# Altium footprint library Discretes.PCBLIB: 77 footprints (part 5 of 5)
Each footprint in its own frame and in the unit in brackets; x right, y up, seen from the top. Pads: shape width x height; smd on the part's side, far side on the other; paste and mask are expansions set on the pad; w line width, h text height; cw(c..) or ccw(c..) is an arc to the next point about the centre after c.
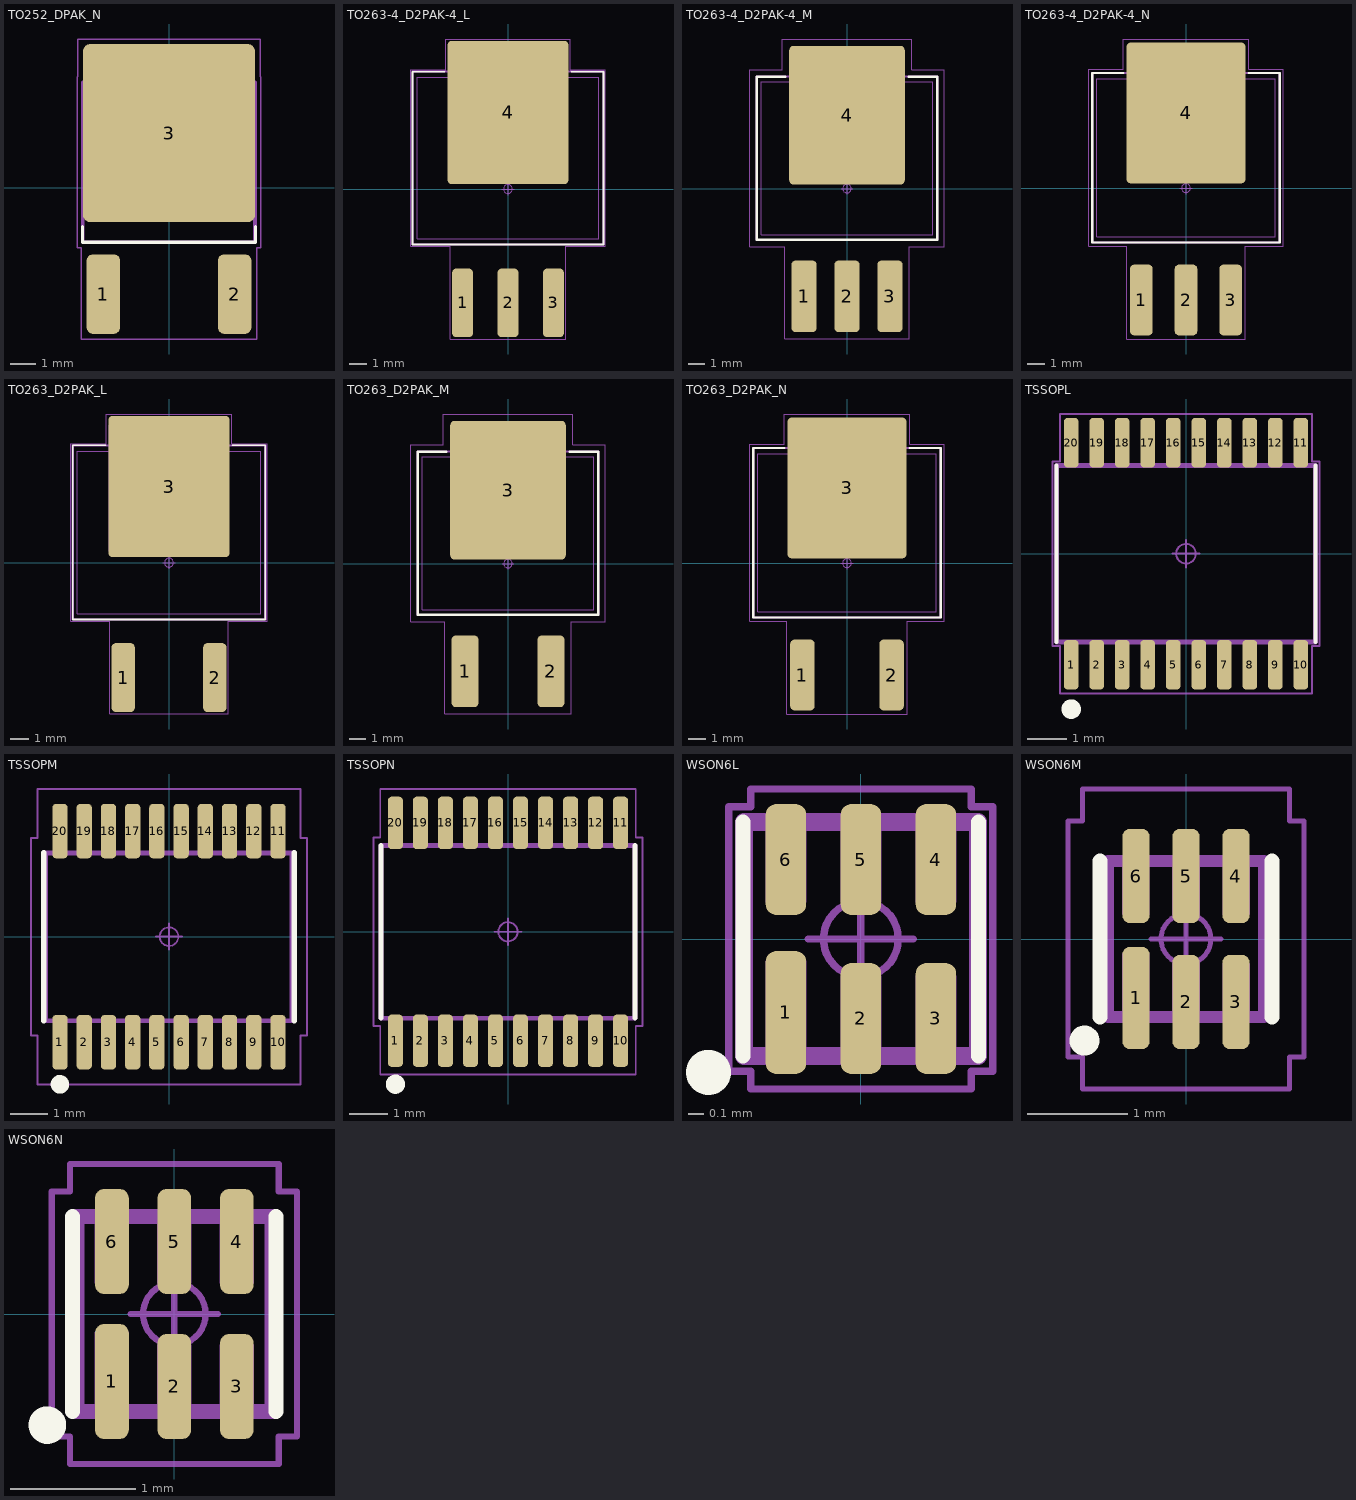
[diagram p4: the footprints below, top view; thin cyan lines are the x and y axes]

## TO252_DPAK_N [mm] "DPAK, 5.08 mm pitch; 2 pin, 6.10 mm L X 6.575 mm W X 2.38 mm H body"
height 2.38
pads (3):
  rrect38% 1.3x3.08 smd: 1(-2.54,-4.12) 2(2.54,-4.12)
  rrect8% 6.67x6.89 smd paste-6.89: 3(0,2.11)
Top Overlay:
  lines w0.12: -3.35,-1.515 -3.35,-2.115 3.35,-2.115 3.35,-1.515
Top Paste:
  region: -1.44,3.585 -3,3.585 -3,5.215 -1.44,5.215
  region: -1.44,1.295 -3,1.295 -3,2.925 -1.44,2.925
  region: -1.44,-0.995 -3,-0.995 -3,0.635 -1.44,0.635
  region: 0.78,3.585 -0.78,3.585 -0.78,5.215 0.78,5.215
  region: 0.78,1.295 -0.78,1.295 -0.78,2.925 0.78,2.925
  region: 0.78,-0.995 -0.78,-0.995 -0.78,0.635 0.78,0.635
  region: 3,3.585 1.44,3.585 1.44,5.215 3,5.215
  region: 3,1.295 1.44,1.295 1.44,2.925 3,2.925
  region: 3,-0.995 1.44,-0.995 1.44,0.635 3,0.635
Top Body, 3D Models:
  lines w0.025: -3.287,-2.065 3.287,-2.065 3.287,4.035 -3.287,4.035 -3.287,-2.065
Top Courtyard:
  circle w0.05: c0,0 r0.25
  lines w0.05: -0.35,0 0.35,0 ; 0,-0.35 0,0.35 ; -3.55,-2.32 -3.39,-2.32 -3.39,-5.86 3.39,-5.86 3.39,-2.32 3.55,-2.32 3.55,4.29 3.535,4.29 3.535,5.755 -3.535,5.755 -3.535,4.29 -3.55,4.29 -3.55,-2.32
Top DesignatorDoc:
  text ".Designator" at 0,0 h1.2
Top Pad Outlines:
  lines w0.025: -3.25,-1.048 -3.25,4.952 3.25,4.952 3.25,-1.048 -3.25,-1.048 ; -2.92,-4.952 -2.92,-3.363 -2.16,-3.363 -2.16,-4.952 -2.92,-4.952 ; 2.16,-4.952 2.16,-3.363 2.92,-3.363 2.92,-4.952 2.16,-4.952
Top Assembly Outline:
  lines w0.12: -3.35,-2.115 -3.35,4.085 3.35,4.085 3.35,-2.115 -3.35,-2.115
3D body "DPAK_TO252_N.STEP": height 2.38, standoff 0, extent -3.287,-4.952 3.287,4.952

## TO263-4_D2PAK-4_L [mm] "DPAK, 2.54 mm pitch; 3 pin, 9.015 mm L X 10.16 mm W X 4.65 mm H body"
height 4.65
pads (4):
  rrect42% 1.19x3.84 smd: 1(-2.54,-6.37) 2(0,-6.37) 3(2.54,-6.37)
  rrect7% 6.77x8.02 smd paste-8.02: 4(0,4.28)
Top Overlay:
  lines w0.1: -3.535,6.562 -5.34,6.562 -5.34,-3.097 5.34,-3.097 5.34,6.562 3.535,6.562
Top Paste:
  region: 3.03,0.53 1.49,0.53 1.49,2 3.03,2
  region: 3.03,2.54 1.49,2.54 1.49,4.01 3.03,4.01
  region: 3.03,4.55 1.49,4.55 1.49,6.02 3.03,6.02
  region: 3.03,6.56 1.49,6.56 1.49,8.03 3.03,8.03
  region: 0.77,0.53 -0.77,0.53 -0.77,2 0.77,2
  region: 0.77,2.54 -0.77,2.54 -0.77,4.01 0.77,4.01
  region: 0.77,4.55 -0.77,4.55 -0.77,6.02 0.77,6.02
  region: 0.77,6.56 -0.77,6.56 -0.77,8.03 0.77,8.03
  region: -1.49,0.53 -3.03,0.53 -3.03,2 -1.49,2
  region: -1.49,2.54 -3.03,2.54 -3.03,4.01 -1.49,4.01
  region: -1.49,4.55 -3.03,4.55 -3.03,6.02 -1.49,6.02
  region: -1.49,6.56 -3.03,6.56 -3.03,8.03 -1.49,8.03
Top Body, 3D Models:
  lines w0.025: -5.08,-2.775 -5.08,6.24 5.08,6.24 5.08,-2.775 -5.08,-2.775
Top Courtyard:
  circle w0.05: c0,0 r0.25
  lines w0.05: -0.35,0 0.35,0 ; 0,-0.35 0,0.35 ; -5.44,-3.2 -5.44,6.66 -3.485,6.66 -3.485,8.39 3.485,8.39 3.485,6.66 5.44,6.66 5.44,-3.2 3.235,-3.2 3.235,-8.39 -3.235,-8.39 -3.235,-3.2 -5.44,-3.2
Top DesignatorDoc:
  text ".Designator" at 0,0 h1
Top Pad Outlines:
  lines w0.025: -3.3,0.62 3.3,0.62 3.3,7.62 -3.3,7.62 -3.3,0.62 ; -2.96,-7.62 -2.12,-7.62 -2.12,-5.335 -2.96,-5.335 -2.96,-7.62 ; -0.42,-7.62 0.42,-7.62 0.42,-5.335 -0.42,-5.335 -0.42,-7.62 ; 2.12,-7.62 2.96,-7.62 2.96,-5.335 2.12,-5.335 2.12,-7.62
Top Assembly Outline:
  lines w0.12: -5.34,-3.097 5.34,-3.097 5.34,6.562 -5.34,6.562 -5.34,-3.097
3D body "D2PAK-4_TO263-4_L.STEP": height 4.65, standoff 0, extent -5.08,-7.62 5.08,7.62

## TO263-4_D2PAK-4_M [mm] "DPAK, 2.54 mm pitch; 3 pin, 9.015 mm L X 10.16 mm W X 4.65 mm H body"
height 4.65
pads (4):
  rrect34% 1.49x4.24 smd: 1(-2.54,-6.37) 2(0,-6.37) 3(2.54,-6.37)
  rrect7% 6.83x8.2 smd paste-8.2: 4(0,4.34)
Top Overlay:
  lines w0.15: -3.64,6.622 -5.34,6.622 -5.34,-3.037 5.34,-3.037 5.34,6.622 3.64,6.622
Top Paste:
  region: -1.505,6.675 -3.055,6.675 -3.055,8.185 -1.505,8.185
  region: -1.505,4.615 -3.055,4.615 -3.055,6.125 -1.505,6.125
  region: -1.505,2.555 -3.055,2.555 -3.055,4.065 -1.505,4.065
  region: -1.505,0.495 -3.055,0.495 -3.055,2.005 -1.505,2.005
  region: 0.775,6.675 -0.775,6.675 -0.775,8.185 0.775,8.185
  region: 0.775,4.615 -0.775,4.615 -0.775,6.125 0.775,6.125
  region: 0.775,2.555 -0.775,2.555 -0.775,4.065 0.775,4.065
  region: 0.775,0.495 -0.775,0.495 -0.775,2.005 0.775,2.005
  region: 3.055,6.675 1.505,6.675 1.505,8.185 3.055,8.185
  region: 3.055,4.615 1.505,4.615 1.505,6.125 3.055,6.125
  region: 3.055,2.555 1.505,2.555 1.505,4.065 3.055,4.065
  region: 3.055,0.495 1.505,0.495 1.505,2.005 3.055,2.005
Top Body, 3D Models:
  lines w0.025: -5.08,-2.715 5.08,-2.715 5.08,6.3 -5.08,6.3 -5.08,-2.715
Top Courtyard:
  circle w0.05: c0,0 r0.25
  lines w0.05: -0.35,0 0.35,0 ; 0,-0.35 0,0.35 ; -5.74,-3.44 -3.685,-3.44 -3.685,-8.89 3.685,-8.89 3.685,-3.44 5.74,-3.44 5.74,7.02 3.815,7.02 3.815,8.84 -3.815,8.84 -3.815,7.02 -5.74,7.02 -5.74,-3.44
Top DesignatorDoc:
  text ".Designator" at 0,0 h1.5
Top Pad Outlines:
  lines w0.025: -3.3,0.62 -3.3,7.62 3.3,7.62 3.3,0.62 -3.3,0.62 ; -2.96,-7.62 -2.96,-5.335 -2.12,-5.335 -2.12,-7.62 -2.96,-7.62 ; -0.42,-7.62 -0.42,-5.335 0.42,-5.335 0.42,-7.62 -0.42,-7.62 ; 2.12,-7.62 2.12,-5.335 2.96,-5.335 2.96,-7.62 2.12,-7.62
Top Assembly Outline:
  lines w0.12: -5.34,-3.037 -5.34,6.622 5.34,6.622 5.34,-3.037 -5.34,-3.037
3D body "D2PAK-4_TO263-4_M.STEP": height 4.65, standoff 0, extent -5.08,-7.62 5.08,7.62

## TO263-4_D2PAK-4_N [mm] "DPAK, 2.54 mm pitch; 3 pin, 9.015 mm L X 10.16 mm W X 4.65 mm H body"
height 4.65
pads (4):
  rrect39% 1.29x4.04 smd: 1(-2.54,-6.37) 2(0,-6.37) 3(2.54,-6.37)
  rrect7% 6.77x8.02 smd paste-8.02: 4(0,4.28)
Top Overlay:
  lines w0.12: -3.565,6.562 -5.34,6.562 -5.34,-3.097 5.34,-3.097 5.34,6.562 3.565,6.562
Top Paste:
  region: 3.03,0.53 1.49,0.53 1.49,2 3.03,2
  region: 3.03,2.54 1.49,2.54 1.49,4.01 3.03,4.01
  region: 3.03,4.55 1.49,4.55 1.49,6.02 3.03,6.02
  region: 3.03,6.56 1.49,6.56 1.49,8.03 3.03,8.03
  region: 0.77,0.53 -0.77,0.53 -0.77,2 0.77,2
  region: 0.77,2.54 -0.77,2.54 -0.77,4.01 0.77,4.01
  region: 0.77,4.55 -0.77,4.55 -0.77,6.02 0.77,6.02
  region: 0.77,6.56 -0.77,6.56 -0.77,8.03 0.77,8.03
  region: -1.49,0.53 -3.03,0.53 -3.03,2 -1.49,2
  region: -1.49,2.54 -3.03,2.54 -3.03,4.01 -1.49,4.01
  region: -1.49,4.55 -3.03,4.55 -3.03,6.02 -1.49,6.02
  region: -1.49,6.56 -3.03,6.56 -3.03,8.03 -1.49,8.03
Top Body, 3D Models:
  lines w0.025: -5.08,-2.775 -5.08,6.24 5.08,6.24 5.08,-2.775 -5.08,-2.775
Top Courtyard:
  circle w0.05: c0,0 r0.25
  lines w0.05: -0.35,0 0.35,0 ; 0,-0.35 0,0.35 ; -5.54,-3.3 -5.54,6.76 -3.585,6.76 -3.585,8.49 3.585,8.49 3.585,6.76 5.54,6.76 5.54,-3.3 3.385,-3.3 3.385,-8.59 -3.385,-8.59 -3.385,-3.3 -5.54,-3.3
Top DesignatorDoc:
  text ".Designator" at 0,0 h1.2
Top Pad Outlines:
  lines w0.025: -3.3,0.62 3.3,0.62 3.3,7.62 -3.3,7.62 -3.3,0.62 ; -2.96,-7.62 -2.12,-7.62 -2.12,-5.335 -2.96,-5.335 -2.96,-7.62 ; -0.42,-7.62 0.42,-7.62 0.42,-5.335 -0.42,-5.335 -0.42,-7.62 ; 2.12,-7.62 2.96,-7.62 2.96,-5.335 2.12,-5.335 2.12,-7.62
Top Assembly Outline:
  lines w0.12: -5.34,-3.097 5.34,-3.097 5.34,6.562 -5.34,6.562 -5.34,-3.097
3D body "D2PAK-4_TO263-4_N.STEP": height 4.65, standoff 0, extent -5.08,-7.62 5.08,7.62

## TO263_D2PAK_L [mm] "DPAK, 5.08 mm pitch; 2 pin, 9.015 mm L X 10.16 mm W X 4.65 mm H body"
height 4.65
pads (3):
  rrect39% 1.29x3.84 smd: 1(-2.54,-6.37) 2(2.54,-6.37)
  rrect7% 6.73x7.84 smd paste-7.84: 3(0,4.22)
Top Overlay:
  lines w0.1: -3.515,6.502 -5.34,6.502 -5.34,-3.157 5.34,-3.157 5.34,6.502 3.515,6.502
Top Paste:
  region: 3.02,0.565 1.48,0.565 1.48,1.995 3.02,1.995
  region: 3.02,2.525 1.48,2.525 1.48,3.955 3.02,3.955
  region: 3.02,4.485 1.48,4.485 1.48,5.915 3.02,5.915
  region: 3.02,6.445 1.48,6.445 1.48,7.875 3.02,7.875
  region: 0.77,0.565 -0.77,0.565 -0.77,1.995 0.77,1.995
  region: 0.77,2.525 -0.77,2.525 -0.77,3.955 0.77,3.955
  region: 0.77,4.485 -0.77,4.485 -0.77,5.915 0.77,5.915
  region: 0.77,6.445 -0.77,6.445 -0.77,7.875 0.77,7.875
  region: -1.48,0.565 -3.02,0.565 -3.02,1.995 -1.48,1.995
  region: -1.48,2.525 -3.02,2.525 -3.02,3.955 -1.48,3.955
  region: -1.48,4.485 -3.02,4.485 -3.02,5.915 -1.48,5.915
  region: -1.48,6.445 -3.02,6.445 -3.02,7.875 -1.48,7.875
Top Body, 3D Models:
  lines w0.025: -5.08,-2.835 -5.08,6.18 5.08,6.18 5.08,-2.835 -5.08,-2.835
Top Courtyard:
  circle w0.05: c0,0 r0.25
  lines w0.05: -0.35,0 0.35,0 ; 0,-0.35 0,0.35 ; -5.44,-3.26 -5.44,6.6 -3.465,6.6 -3.465,8.24 3.465,8.24 3.465,6.6 5.44,6.6 5.44,-3.26 3.285,-3.26 3.285,-8.39 -3.285,-8.39 -3.285,-3.26 -5.44,-3.26
Top DesignatorDoc:
  text ".Designator" at 0,0 h1
Top Pad Outlines:
  lines w0.025: -3.3,0.62 3.3,0.62 3.3,7.62 -3.3,7.62 -3.3,0.62 ; -2.96,-7.62 -2.12,-7.62 -2.12,-5.335 -2.96,-5.335 -2.96,-7.62 ; 2.12,-7.62 2.96,-7.62 2.96,-5.335 2.12,-5.335 2.12,-7.62
Top Assembly Outline:
  lines w0.12: -5.34,-3.157 5.34,-3.157 5.34,6.502 -5.34,6.502 -5.34,-3.157
3D body "D2PAK_TO263_L.STEP": height 4.65, standoff 0, extent -5.08,-7.62 5.08,7.62

## TO263_D2PAK_M [mm] "DPAK, 5.08 mm pitch; 2 pin, 9.015 mm L X 10.16 mm W X 4.65 mm H body"
height 4.65
pads (3):
  rrect31% 1.59x4.24 smd: 1(-2.54,-6.37) 2(2.54,-6.37)
  rrect7% 6.83x8.2 smd paste-8.2: 3(0,4.34)
Top Overlay:
  lines w0.15: -3.64,6.622 -5.34,6.622 -5.34,-3.037 5.34,-3.037 5.34,6.622 3.64,6.622
Top Paste:
  region: -1.505,6.675 -3.055,6.675 -3.055,8.185 -1.505,8.185
  region: -1.505,4.615 -3.055,4.615 -3.055,6.125 -1.505,6.125
  region: -1.505,2.555 -3.055,2.555 -3.055,4.065 -1.505,4.065
  region: -1.505,0.495 -3.055,0.495 -3.055,2.005 -1.505,2.005
  region: 0.775,6.675 -0.775,6.675 -0.775,8.185 0.775,8.185
  region: 0.775,4.615 -0.775,4.615 -0.775,6.125 0.775,6.125
  region: 0.775,2.555 -0.775,2.555 -0.775,4.065 0.775,4.065
  region: 0.775,0.495 -0.775,0.495 -0.775,2.005 0.775,2.005
  region: 3.055,6.675 1.505,6.675 1.505,8.185 3.055,8.185
  region: 3.055,4.615 1.505,4.615 1.505,6.125 3.055,6.125
  region: 3.055,2.555 1.505,2.555 1.505,4.065 3.055,4.065
  region: 3.055,0.495 1.505,0.495 1.505,2.005 3.055,2.005
Top Body, 3D Models:
  lines w0.025: -5.08,-2.715 5.08,-2.715 5.08,6.3 -5.08,6.3 -5.08,-2.715
Top Courtyard:
  circle w0.05: c0,0 r0.25
  lines w0.05: -0.35,0 0.35,0 ; 0,-0.35 0,0.35 ; -5.74,-3.44 -3.735,-3.44 -3.735,-8.89 3.735,-8.89 3.735,-3.44 5.74,-3.44 5.74,7.02 3.815,7.02 3.815,8.84 -3.815,8.84 -3.815,7.02 -5.74,7.02 -5.74,-3.44
Top DesignatorDoc:
  text ".Designator" at 0,0 h1.5
Top Pad Outlines:
  lines w0.025: -3.3,0.62 -3.3,7.62 3.3,7.62 3.3,0.62 -3.3,0.62 ; -2.96,-7.62 -2.96,-5.335 -2.12,-5.335 -2.12,-7.62 -2.96,-7.62 ; 2.12,-7.62 2.12,-5.335 2.96,-5.335 2.96,-7.62 2.12,-7.62
Top Assembly Outline:
  lines w0.12: -5.34,-3.037 -5.34,6.622 5.34,6.622 5.34,-3.037 -5.34,-3.037
3D body "D2PAK_TO263_M.STEP": height 4.65, standoff 0, extent -5.08,-7.62 5.08,7.62

## TO263_D2PAK_N [mm] "DPAK, 5.08 mm pitch; 2 pin, 9.015 mm L X 10.16 mm W X 4.65 mm H body"
height 4.65
pads (3):
  rrect36% 1.39x4.04 smd: 1(-2.54,-6.37) 2(2.54,-6.37)
  rrect7% 6.77x8.02 smd paste-8.02: 3(0,4.28)
Top Overlay:
  lines w0.12: -3.565,6.562 -5.34,6.562 -5.34,-3.097 5.34,-3.097 5.34,6.562 3.565,6.562
Top Paste:
  region: -1.49,6.56 -3.03,6.56 -3.03,8.03 -1.49,8.03
  region: -1.49,4.55 -3.03,4.55 -3.03,6.02 -1.49,6.02
  region: -1.49,2.54 -3.03,2.54 -3.03,4.01 -1.49,4.01
  region: -1.49,0.53 -3.03,0.53 -3.03,2 -1.49,2
  region: 0.77,6.56 -0.77,6.56 -0.77,8.03 0.77,8.03
  region: 0.77,4.55 -0.77,4.55 -0.77,6.02 0.77,6.02
  region: 0.77,2.54 -0.77,2.54 -0.77,4.01 0.77,4.01
  region: 0.77,0.53 -0.77,0.53 -0.77,2 0.77,2
  region: 3.03,6.56 1.49,6.56 1.49,8.03 3.03,8.03
  region: 3.03,4.55 1.49,4.55 1.49,6.02 3.03,6.02
  region: 3.03,2.54 1.49,2.54 1.49,4.01 3.03,4.01
  region: 3.03,0.53 1.49,0.53 1.49,2 3.03,2
Top Body, 3D Models:
  lines w0.025: -5.08,-2.775 5.08,-2.775 5.08,6.24 -5.08,6.24 -5.08,-2.775
Top Courtyard:
  circle w0.05: c0,0 r0.25
  lines w0.05: -0.35,0 0.35,0 ; 0,-0.35 0,0.35 ; -5.54,-3.3 -3.435,-3.3 -3.435,-8.59 3.435,-8.59 3.435,-3.3 5.54,-3.3 5.54,6.76 3.585,6.76 3.585,8.49 -3.585,8.49 -3.585,6.76 -5.54,6.76 -5.54,-3.3
Top DesignatorDoc:
  text ".Designator" at 0,0 h1.2
Top Pad Outlines:
  lines w0.025: -3.3,0.62 -3.3,7.62 3.3,7.62 3.3,0.62 -3.3,0.62 ; -2.96,-7.62 -2.96,-5.335 -2.12,-5.335 -2.12,-7.62 -2.96,-7.62 ; 2.12,-7.62 2.12,-5.335 2.96,-5.335 2.96,-7.62 2.12,-7.62
Top Assembly Outline:
  lines w0.12: -5.34,-3.097 -5.34,6.562 5.34,6.562 5.34,-3.097 -5.34,-3.097
3D body "D2PAK_TO263_N.STEP": height 4.65, standoff 0, extent -5.08,-7.62 5.08,7.62

## TSSOPL [mm] "Small Outline Pkg (SOP), 0.65 mm pitch; 20 pin, 6.50 mm L X 4.40 mm W X 1.20 mm H body"
height 1.2
pads (20):
  rrect49% 0.37x1.26 smd: 1(-2.925,-2.83) 2(-2.275,-2.83) 3(-1.625,-2.83) 4(-0.975,-2.83) 5(-0.325,-2.83) 6(0.325,-2.83) 7(0.975,-2.83) 8(1.625,-2.83) 9(2.275,-2.83) 10(2.925,-2.83) 11(2.925,2.83) 12(2.275,2.83) 13(1.625,2.83) 14(0.975,2.83) 15(0.325,2.83) 16(-0.325,2.83) 17(-0.975,2.83) 18(-1.625,2.83) 19(-2.275,2.83) 20(-2.925,2.83)
Top Overlay:
  circle w0.25: c-2.925,-3.96 r0.125
  lines w0.1: -3.3,-2.25 -3.3,2.25 ; 3.3,-2.25 3.3,2.25
Top Dimensions:
  lines w0.025: -3.25,-2.2 3.25,-2.2 3.25,2.2 -3.25,2.2 -3.25,-2.2
Top Courtyard:
  circle w0.05: c0,0 r0.25
  lines w0.05: -0.35,0 0.35,0 ; 0,-0.35 0,0.35 ; -3.4,-2.35 -3.21,-2.35 -3.21,-3.56 3.21,-3.56 3.21,-2.35 3.4,-2.35 3.4,2.35 3.21,2.35 3.21,3.56 -3.21,3.56 -3.21,2.35 -3.4,2.35 -3.4,-2.35
Top DesignatorDoc:
  text ".Designator" at 0,0 h1
Top Pad Outlines:
  lines w0.025: -3.047,-3.2 -3.047,-2.6 -2.802,-2.6 -2.802,-3.2 -3.047,-3.2 ; -3.047,2.6 -3.047,3.2 -2.802,3.2 -2.802,2.6 -3.047,2.6 ; -2.398,-3.2 -2.398,-2.6 -2.153,-2.6 -2.153,-3.2 -2.398,-3.2 ; -2.398,2.6 -2.398,3.2 -2.153,3.2 -2.153,2.6 -2.398,2.6 ; -1.747,-3.2 -1.747,-2.6 -1.502,-2.6 -1.502,-3.2 -1.747,-3.2 ; -1.747,2.6 -1.747,3.2 -1.502,3.2 -1.502,2.6 -1.747,2.6 ; -1.098,-3.2 -1.098,-2.6 -0.853,-2.6 -0.853,-3.2 -1.098,-3.2 ; -1.098,2.6 -1.098,3.2 -0.853,3.2 -0.853,2.6 -1.098,2.6 ; -0.447,-3.2 -0.447,-2.6 -0.202,-2.6 -0.202,-3.2 -0.447,-3.2 ; -0.447,2.6 -0.447,3.2 -0.202,3.2 -0.202,2.6 -0.447,2.6 ; 0.202,-3.2 0.202,-2.6 0.447,-2.6 0.447,-3.2 0.202,-3.2 ; 0.202,2.6 0.202,3.2 0.447,3.2 0.447,2.6 0.202,2.6 ; 0.853,-3.2 0.853,-2.6 1.098,-2.6 1.098,-3.2 0.853,-3.2 ; 0.853,2.6 0.853,3.2 1.098,3.2 1.098,2.6 0.853,2.6 ; 1.502,-3.2 1.502,-2.6 1.747,-2.6 1.747,-3.2 1.502,-3.2 ; 1.502,2.6 1.502,3.2 1.747,3.2 1.747,2.6 1.502,2.6 ; 2.153,-3.2 2.153,-2.6 2.398,-2.6 2.398,-3.2 2.153,-3.2 ; 2.153,2.6 2.153,3.2 2.398,3.2 2.398,2.6 2.153,2.6 ; 2.802,-3.2 2.802,-2.6 3.047,-2.6 3.047,-3.2 2.802,-3.2 ; 2.802,2.6 2.802,3.2 3.047,3.2 3.047,2.6 2.802,2.6
Top Assembly Outline:
  lines w0.12: -3.3,-2.25 3.3,-2.25 3.3,2.25 -3.3,2.25 -3.3,-2.25
3D body "TSSOPL.STEP": height 1.2, standoff 0, extent -3.25,-3.2 3.25,3.2

## TSSOPM [mm] "Small Outline Pkg (SOP), 0.65 mm pitch; 20 pin, 6.50 mm L X 4.40 mm W X 1.20 mm H body"
height 1.2
pads (20):
  rrect49% 0.41x1.46 smd: 1(-2.925,-2.83) 2(-2.275,-2.83) 3(-1.625,-2.83) 4(-0.975,-2.83) 5(-0.325,-2.83) 6(0.325,-2.83) 7(0.975,-2.83) 8(1.625,-2.83) 9(2.275,-2.83) 10(2.925,-2.83) 11(2.925,2.83) 12(2.275,2.83) 13(1.625,2.83) 14(0.975,2.83) 15(0.325,2.83) 16(-0.325,2.83) 17(-0.975,2.83) 18(-1.625,2.83) 19(-2.275,2.83) 20(-2.925,2.83)
Top Overlay:
  circle w0.25: c-2.925,-3.96 r0.125
  lines w0.15: -3.355,-2.25 -3.355,2.25 ; 3.355,-2.25 3.355,2.25
Top Dimensions:
  lines w0.025: -3.25,-2.2 3.25,-2.2 3.25,2.2 -3.25,2.2 -3.25,-2.2
Top Courtyard:
  circle w0.05: c0,0 r0.25
  lines w0.05: -0.35,0 0.35,0 ; 0,-0.35 0,0.35 ; -3.7,-2.65 -3.53,-2.65 -3.53,-3.96 3.53,-3.96 3.53,-2.65 3.7,-2.65 3.7,2.65 3.53,2.65 3.53,3.96 -3.53,3.96 -3.53,2.65 -3.7,2.65 -3.7,-2.65
Top DesignatorDoc:
  text ".Designator" at 0,0 h1.5
Top Pad Outlines:
  lines w0.025: -3.047,-3.2 -3.047,-2.6 -2.802,-2.6 -2.802,-3.2 -3.047,-3.2 ; -3.047,2.6 -3.047,3.2 -2.802,3.2 -2.802,2.6 -3.047,2.6 ; -2.398,-3.2 -2.398,-2.6 -2.153,-2.6 -2.153,-3.2 -2.398,-3.2 ; -2.398,2.6 -2.398,3.2 -2.153,3.2 -2.153,2.6 -2.398,2.6 ; -1.747,-3.2 -1.747,-2.6 -1.502,-2.6 -1.502,-3.2 -1.747,-3.2 ; -1.747,2.6 -1.747,3.2 -1.502,3.2 -1.502,2.6 -1.747,2.6 ; -1.098,-3.2 -1.098,-2.6 -0.853,-2.6 -0.853,-3.2 -1.098,-3.2 ; -1.098,2.6 -1.098,3.2 -0.853,3.2 -0.853,2.6 -1.098,2.6 ; -0.447,-3.2 -0.447,-2.6 -0.202,-2.6 -0.202,-3.2 -0.447,-3.2 ; -0.447,2.6 -0.447,3.2 -0.202,3.2 -0.202,2.6 -0.447,2.6 ; 0.202,-3.2 0.202,-2.6 0.447,-2.6 0.447,-3.2 0.202,-3.2 ; 0.202,2.6 0.202,3.2 0.447,3.2 0.447,2.6 0.202,2.6 ; 0.853,-3.2 0.853,-2.6 1.098,-2.6 1.098,-3.2 0.853,-3.2 ; 0.853,2.6 0.853,3.2 1.098,3.2 1.098,2.6 0.853,2.6 ; 1.502,-3.2 1.502,-2.6 1.747,-2.6 1.747,-3.2 1.502,-3.2 ; 1.502,2.6 1.502,3.2 1.747,3.2 1.747,2.6 1.502,2.6 ; 2.153,-3.2 2.153,-2.6 2.398,-2.6 2.398,-3.2 2.153,-3.2 ; 2.153,2.6 2.153,3.2 2.398,3.2 2.398,2.6 2.153,2.6 ; 2.802,-3.2 2.802,-2.6 3.047,-2.6 3.047,-3.2 2.802,-3.2 ; 2.802,2.6 2.802,3.2 3.047,3.2 3.047,2.6 2.802,2.6
Top Assembly Outline:
  lines w0.12: -3.3,-2.25 3.3,-2.25 3.3,2.25 -3.3,2.25 -3.3,-2.25
3D body "TSSOPM.STEP": height 1.2, standoff 0, extent -3.25,-3.2 3.25,3.2

## TSSOPN [mm] "Small Outline Pkg (SOP), 0.65 mm pitch; 20 pin, 6.50 mm L X 4.40 mm W X 1.20 mm H body"
height 1.2
pads (20):
  rrect51% 0.39x1.36 smd: 1(-2.925,-2.83) 2(-2.275,-2.83) 3(-1.625,-2.83) 4(-0.975,-2.83) 5(-0.325,-2.83) 6(0.325,-2.83) 7(0.975,-2.83) 8(1.625,-2.83) 9(2.275,-2.83) 10(2.925,-2.83) 11(2.925,2.83) 12(2.275,2.83) 13(1.625,2.83) 14(0.975,2.83) 15(0.325,2.83) 16(-0.325,2.83) 17(-0.975,2.83) 18(-1.625,2.83) 19(-2.275,2.83) 20(-2.925,2.83)
Top Overlay:
  circle w0.25: c-2.925,-3.96 r0.125
  lines w0.12: -3.3,-2.25 -3.3,2.25 ; 3.3,-2.25 3.3,2.25
Top Dimensions:
  lines w0.025: -3.25,-2.2 3.25,-2.2 3.25,2.2 -3.25,2.2 -3.25,-2.2
Top Courtyard:
  circle w0.05: c0,0 r0.25
  lines w0.05: -0.35,0 0.35,0 ; 0,-0.35 0,0.35 ; -3.5,-2.45 -3.32,-2.45 -3.32,-3.71 3.32,-3.71 3.32,-2.45 3.5,-2.45 3.5,2.45 3.32,2.45 3.32,3.71 -3.32,3.71 -3.32,2.45 -3.5,2.45 -3.5,-2.45
Top DesignatorDoc:
  text ".Designator" at 0,0 h1.2
Top Pad Outlines:
  lines w0.025: -3.047,-3.2 -3.047,-2.6 -2.802,-2.6 -2.802,-3.2 -3.047,-3.2 ; -3.047,2.6 -3.047,3.2 -2.802,3.2 -2.802,2.6 -3.047,2.6 ; -2.398,-3.2 -2.398,-2.6 -2.153,-2.6 -2.153,-3.2 -2.398,-3.2 ; -2.398,2.6 -2.398,3.2 -2.153,3.2 -2.153,2.6 -2.398,2.6 ; -1.747,-3.2 -1.747,-2.6 -1.502,-2.6 -1.502,-3.2 -1.747,-3.2 ; -1.747,2.6 -1.747,3.2 -1.502,3.2 -1.502,2.6 -1.747,2.6 ; -1.098,-3.2 -1.098,-2.6 -0.853,-2.6 -0.853,-3.2 -1.098,-3.2 ; -1.098,2.6 -1.098,3.2 -0.853,3.2 -0.853,2.6 -1.098,2.6 ; -0.447,-3.2 -0.447,-2.6 -0.202,-2.6 -0.202,-3.2 -0.447,-3.2 ; -0.447,2.6 -0.447,3.2 -0.202,3.2 -0.202,2.6 -0.447,2.6 ; 0.202,-3.2 0.202,-2.6 0.447,-2.6 0.447,-3.2 0.202,-3.2 ; 0.202,2.6 0.202,3.2 0.447,3.2 0.447,2.6 0.202,2.6 ; 0.853,-3.2 0.853,-2.6 1.098,-2.6 1.098,-3.2 0.853,-3.2 ; 0.853,2.6 0.853,3.2 1.098,3.2 1.098,2.6 0.853,2.6 ; 1.502,-3.2 1.502,-2.6 1.747,-2.6 1.747,-3.2 1.502,-3.2 ; 1.502,2.6 1.502,3.2 1.747,3.2 1.747,2.6 1.502,2.6 ; 2.153,-3.2 2.153,-2.6 2.398,-2.6 2.398,-3.2 2.153,-3.2 ; 2.153,2.6 2.153,3.2 2.398,3.2 2.398,2.6 2.153,2.6 ; 2.802,-3.2 2.802,-2.6 3.047,-2.6 3.047,-3.2 2.802,-3.2 ; 2.802,2.6 2.802,3.2 3.047,3.2 3.047,2.6 2.802,2.6
Top Assembly Outline:
  lines w0.12: -3.3,-2.25 3.3,-2.25 3.3,2.25 -3.3,2.25 -3.3,-2.25
3D body "TSSOPN.STEP": height 1.2, standoff 0, extent -3.25,-3.2 3.25,3.2

## WSON6L [mm] "Small Outline No-Lead (SON), 0.50 mm pitch; 6 pin, 1.50 mm L X 1.50 mm W X 0.80 mm H body"
height 0.8
pads (6):
  rrect52% 0.27x0.82 smd: 1(-0.5,-0.49)
  rrect52% 0.27x0.74 smd: 2(0,-0.53) 3(0.5,-0.53) 4(0.5,0.53) 5(0,0.53) 6(-0.5,0.53)
Top Overlay:
  circle w0.2: c-1.016,-0.889 r0.05
  lines w0.1: -0.785,-0.78 -0.785,0.78 ; 0.785,-0.78 0.785,0.78
Top Dimensions:
  lines w0.025: -0.75,-0.75 -0.75,0.75 0.75,0.75 0.75,-0.75 -0.75,-0.75
Top Courtyard:
  circle w0.05: c0,0 r0.25
  lines w0.05: -0.35,0 0.35,0 ; 0,-0.35 0,0.35 ; -0.88,-0.88 -0.88,0.88 -0.735,0.88 -0.735,1 0.735,1 0.735,0.88 0.88,0.88 0.88,-0.88 0.735,-0.88 0.735,-1 -0.735,-1 -0.735,-0.88 -0.88,-0.88
Top DesignatorDoc:
  text ".Designator" at 0,0 h1
Top Pad Outlines:
  lines w0.025: -0.625,-0.75 -0.375,-0.75 -0.375,-0.15 -0.625,-0.15 -0.625,-0.75 ; -0.625,0.25 -0.375,0.25 -0.375,0.75 -0.625,0.75 -0.625,0.25 ; -0.125,-0.75 0.125,-0.75 0.125,-0.25 -0.125,-0.25 -0.125,-0.75 ; -0.125,0.25 0.125,0.25 0.125,0.75 -0.125,0.75 -0.125,0.25 ; 0.375,-0.75 0.625,-0.75 0.625,-0.25 0.375,-0.25 0.375,-0.75 ; 0.375,0.25 0.625,0.25 0.625,0.75 0.375,0.75 0.375,0.25
Top Assembly Outline:
  lines w0.12: -0.78,-0.78 -0.78,0.78 0.78,0.78 0.78,-0.78 -0.78,-0.78
3D body "WSON6L.STEP": height 0.8, standoff 0, extent -0.75,-0.8 0.75,0.8

## WSON6M [mm] "Small Outline No-Lead (SON), 0.50 mm pitch; 6 pin, 1.50 mm L X 1.50 mm W X 0.80 mm H body"
height 0.8
pads (6):
  rrect52% 0.27x1.02 smd: 1(-0.5,-0.59)
  rrect52% 0.27x0.94 smd: 2(0,-0.63) 3(0.5,-0.63) 4(0.5,0.63) 5(0,0.63) 6(-0.5,0.63)
Top Overlay:
  circle w0.2: c-1.016,-1.016 r0.05
  lines w0.15: -0.86,-0.78 -0.86,0.78 ; 0.86,-0.78 0.86,0.78
Top Dimensions:
  lines w0.025: -0.75,-0.75 0.75,-0.75 0.75,0.75 -0.75,0.75 -0.75,-0.75
Top Courtyard:
  circle w0.05: c0,0 r0.25
  lines w0.05: -0.35,0 0.35,0 ; 0,-0.35 0,0.35 ; -1.18,-1.18 -1.035,-1.18 -1.035,-1.5 1.035,-1.5 1.035,-1.18 1.18,-1.18 1.18,1.18 1.035,1.18 1.035,1.5 -1.035,1.5 -1.035,1.18 -1.18,1.18 -1.18,-1.18
Top DesignatorDoc:
  text ".Designator" at 0,0 h1.5
Top Pad Outlines:
  lines w0.025: -0.625,-0.75 -0.625,-0.15 -0.375,-0.15 -0.375,-0.75 -0.625,-0.75 ; -0.625,0.25 -0.625,0.75 -0.375,0.75 -0.375,0.25 -0.625,0.25 ; -0.125,-0.75 -0.125,-0.25 0.125,-0.25 0.125,-0.75 -0.125,-0.75 ; -0.125,0.25 -0.125,0.75 0.125,0.75 0.125,0.25 -0.125,0.25 ; 0.375,-0.75 0.375,-0.25 0.625,-0.25 0.625,-0.75 0.375,-0.75 ; 0.375,0.25 0.375,0.75 0.625,0.75 0.625,0.25 0.375,0.25
Top Assembly Outline:
  lines w0.12: -0.78,-0.78 0.78,-0.78 0.78,0.78 -0.78,0.78 -0.78,-0.78
3D body "WSON6M.STEP": height 0.8, standoff 0, extent -0.75,-0.8 0.75,0.8

## WSON6N [mm] "Small Outline No-Lead (SON), 0.50 mm pitch; 6 pin, 1.50 mm L X 1.50 mm W X 0.80 mm H body"
height 0.8
pads (6):
  rrect52% 0.27x0.92 smd: 1(-0.5,-0.54)
  rrect52% 0.27x0.84 smd: 2(0,-0.58) 3(0.5,-0.58) 4(0.5,0.58) 5(0,0.58) 6(-0.5,0.58)
Top Overlay:
  circle w0.2: c-1.016,-0.889 r0.05
  lines w0.12: -0.815,-0.78 -0.815,0.78 ; 0.815,-0.78 0.815,0.78
Top Dimensions:
  lines w0.025: -0.75,-0.75 0.75,-0.75 0.75,0.75 -0.75,0.75 -0.75,-0.75
Top Courtyard:
  circle w0.05: c0,0 r0.25
  lines w0.05: -0.35,0 0.35,0 ; 0,-0.35 0,0.35 ; -0.98,-0.98 -0.835,-0.98 -0.835,-1.2 0.835,-1.2 0.835,-0.98 0.98,-0.98 0.98,0.98 0.835,0.98 0.835,1.2 -0.835,1.2 -0.835,0.98 -0.98,0.98 -0.98,-0.98
Top DesignatorDoc:
  text ".Designator" at 0,0 h1.2
Top Pad Outlines:
  lines w0.025: -0.625,-0.75 -0.625,-0.15 -0.375,-0.15 -0.375,-0.75 -0.625,-0.75 ; -0.625,0.25 -0.625,0.75 -0.375,0.75 -0.375,0.25 -0.625,0.25 ; -0.125,-0.75 -0.125,-0.25 0.125,-0.25 0.125,-0.75 -0.125,-0.75 ; -0.125,0.25 -0.125,0.75 0.125,0.75 0.125,0.25 -0.125,0.25 ; 0.375,-0.75 0.375,-0.25 0.625,-0.25 0.625,-0.75 0.375,-0.75 ; 0.375,0.25 0.375,0.75 0.625,0.75 0.625,0.25 0.375,0.25
Top Assembly Outline:
  lines w0.12: -0.78,-0.78 0.78,-0.78 0.78,0.78 -0.78,0.78 -0.78,-0.78
3D body "WSON6N.STEP": height 0.8, standoff 0, extent -0.75,-0.8 0.75,0.8